# EAGLE library part MAX31855KASA+ (library Nick Firmani)
MAX31855 Cold-Junction Compensated Thermocouple-to-Digital Converter
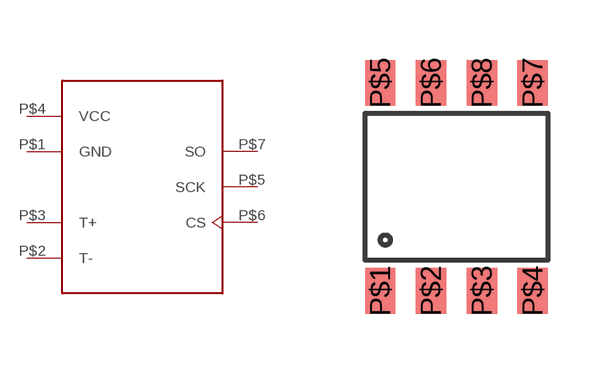
[diagram p0: symbol with the pads of SOIC8; footprint SOIC8]

Designator prefix -

## MAX31855KASA+  [SOIC8]
P$1  GND
P$2  T-
P$3  T+
P$4  VCC
P$5  SCK
P$6  CS
P$7  SO

## Footprint SOIC8 (pad centres in mm)
smd 0.762 x 1.143: P$1 0,0; P$2 1.27,0; P$3 2.54,0; P$4 3.81,0; P$5 0,5.207; P$6 1.27,5.207; P$7 3.81,5.207; P$8 2.54,5.207